# EAGLE library part BMX055 (library we-sensor)
Bosch BMX055 Absolute Orientation Sensor (Accelerometer, Gyroscope, Magnetometer)
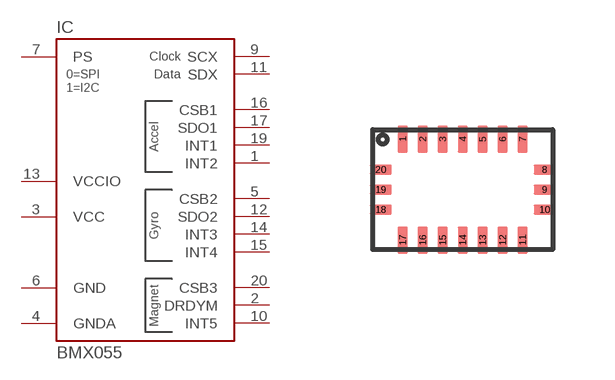
[diagram p9: symbol with the pads of BMX055; footprint BMX055]

Designator prefix IC

## BMX055  [BMX055]
1  INT2  out
2  DRDYM
3  VCC  pwr
4  GNDA  pwr
5  CSB2
6  GND  pwr
7  PS  in
9  SCX
10  INT5
11  SDX
12  SDO2
13  VCCIO  pwr
14  INT3  out
15  INT4  out
16  CSB1
17  SDO1
19  INT1  out
20  CSB3

## Footprint BMX055 (pad centres in mm)
smd 0.25 x 0.675: 1 -1.5,1.262; 2 -1,1.262; 3 -0.5,1.262; 4 0,1.262; 5 0.5,1.262; 6 1,1.262; 7 1.5,1.262; 11 1.5,-1.262; 12 1,-1.262; 13 0.5,-1.262; 14 0,-1.262; 15 -0.5,-1.262; 16 -1,-1.262; 17 -1.5,-1.262
smd 0.55 x 0.25: 8 2.05,0.5; 9 2.05,0; 10 2.05,-0.5; 18 -2.05,-0.5; 19 -2.05,0; 20 -2.05,0.5